# Altium schematic symbol library 5000.SCHLIB: 1 symbol
Pins are listed as number, name and electrical type; pins without a type are passive.

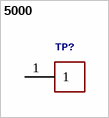
[diagram p0: symbol 5000]

## 5000
designator TP?, comment Check availability  (value not drawn)
GateName_1: G$1; SymbolName_1: 5000; MF: Keystone Electronics; LibraryName: 5000; DeviceSetName: 5000; Purchase-URL: https://pricing.snapeda.com/search/part/5000/?ref=eda; Package: Test Point Keystone Electronics; MP: 5000; Price: None; Availability: In Stock
footprint KEYSTONE_5000
pins: 1